# Altium schematic symbol library Switch.SchLib: 21 symbols
Pins are listed as number, name and electrical type; pins without a type are passive.

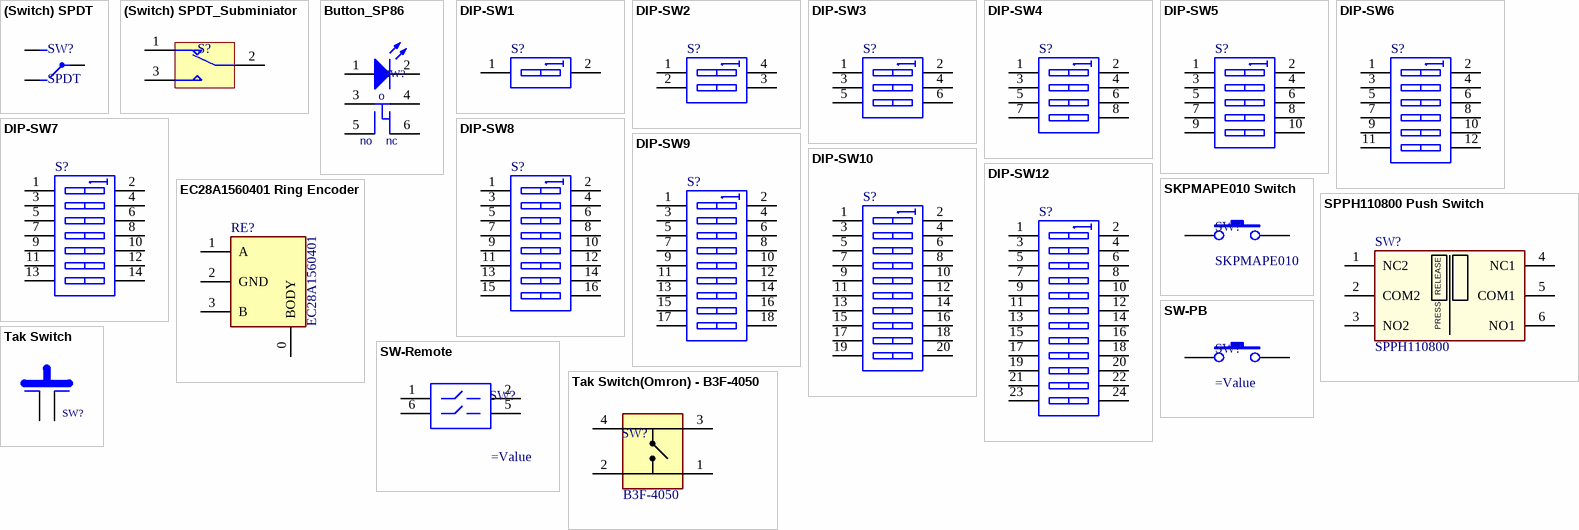
[diagram p0: symbols (Switch) SPDT to Tak Switch(Omron) - B3F-4050]

## (Switch) SPDT
designator SW?, comment SPDT
SPDT Switch
footprint SW SPDT- Horizontal
footprint Switch SPDT - 500x270x1100x185 mil
footprint Switch SPDT - 500x270x1100x185 mil - Right Angle
pins: 1, 2, 3

## (Switch) SPDT_Subminiator
designator S?  (value not drawn)
Subminiator SPDT Switch
footprint SPDT Subminiator (Subminiator SPDT switch)
pins: 1, 2, 3

## Button_SP86
designator SW?
Button
footprint BUTT_SP86
pins: 1, 2, 3, 4, 5, 6
text: o; no; nc

## DIP-SW1
designator S?  (value not drawn)
footprint DSW 1
pins: 1 A1, 2 B1

## DIP-SW2
designator S?  (value not drawn)
footprint DSW 2
pins: 1 A1, 2 A2, 3 B2, 4 B1

## DIP-SW3
designator S?
footprint DSW 3
pins: 1 A1, 2 B1, 3 A2, 4 B2, 5 A3, 6 B3

## DIP-SW4
designator S?  (value not drawn)
footprint DSW 4
footprint DSWS 4-4
pins: 1 A1, 2 B1, 3 A2, 4 B2, 5 A3, 6 B3, 7 A4, 8 B4

## DIP-SW5
designator S?  (value not drawn)
footprint DSW 5
footprint DSWS 4-5
pins: 1 A1, 2 B1, 3 A2, 4 B2, 5 A3, 6 B3, 7 A4, 8 B4, 9 A5, 10 B5

## DIP-SW6
designator S?  (value not drawn)
footprint DSW 6
pins: 1 A1, 2 B1, 3 A2, 4 B2, 5 A3, 6 B3, 7 A4, 8 B4, 9 A5, 10 B5, 11 A6, 12 B6

## DIP-SW7
designator S?  (value not drawn)
footprint DSW 7
pins: 1 A1, 2 B1, 3 A2, 4 B2, 5 A3, 6 B3, 7 A4, 8 B4, 9 A5, 10 B5, 11 A6, 12 B6, 13 A7, 14 B7

## DIP-SW8
designator S?  (value not drawn)
footprint DSW 8
pins: 1 A1, 2 B1, 3 A2, 4 B2, 5 A3, 6 B3, 7 A4, 8 B4, 9 A5, 10 B5, 11 A6, 12 B6, 13 A7, 14 B7, 15 A8, 16 B8

## DIP-SW9
designator S?  (value not drawn)
footprint DSW 9
pins: 1 A1, 2 B1, 3 A2, 4 B2, 5 A3, 6 B3, 7 A4, 8 B4, 9 A5, 10 B5, 11 A6, 12 B6, 13 A7, 14 B7, 15 A8, 16 B8, 17 A9, 18 B9

## DIP-SW10
designator S?  (value not drawn)
footprint DSW 10
pins: 1 A1, 2 B1, 3 A2, 4 B2, 5 A3, 6 B3, 7 A4, 8 B4, 9 A5, 10 B5, 11 A6, 12 B6, 13 A7, 14 B7, 15 A8, 16 B8, 17 A9, 18 B9, 19 A10, 20 B10

## DIP-SW12
designator S?  (value not drawn)
footprint DSW 12
pins: 1 A1, 2 B1, 3 A2, 4 B2, 5 A3, 6 B3, 7 A4, 8 B4, 9 A5, 10 B5, 11 A6, 12 B6, 13 A7, 14 B7, 15 A8, 16 B8, 17 A9, 18 B9, 19 A10, 20 B10, 21 A11, 22 B11, 23 A12, 24 B12

## EC28A1560401 Ring Encoder
designator RE?, comment EC28A1560401
EC28A1560401  Rotary Encoder, Straight, Without Push Switch; Warehouse Number: 11000197; SMD Code: EC28A1560401; Specification: EC28A1560401  Rotary Encoder, Straight, Without Push Switch; Temperature Range: -40℃ to 85℃; PartNumber: EC28A1560401; Package: DIP EC28A1560401
footprint EC28A1560401 (28mm Size Ring Type EC28A/EC28C Series)
pins: 0 BODY, 1 A, 2 GND, 3 B

## SKPMAPE010 Switch
designator SW?, comment SKPMAPE010
SKPMAPE010 TACT Switch 6.0×5.9mm Low Contact Resistance Type (SMD) SKPM Series; Specification: SKPMAPE010 TACT Switch 6.0×5.9mm(SMD); Warehouse Number: 11000192; PartNumber: SKPMAPE010; SMD Code: SKPMAPE010; Temperature Range: -40℃ to 90℃; Package: SMD SKPMAPE010
footprint SKPMAME010 (6.0×5.9mm Low Contact Resistance Type (Surface Mount) SKPM Series)
pins: 1, 2

## SPPH110800 Push Switch
designator SW?, comment SPPH110800
Push Switch N.O./N.C. DPDT Plunger 0.1A 30VDC Latching; Warehouse Number: 11000350; Temperature Ragne: -10℃ to +60℃; SMD Code: SPPH110800; Specification: Push Switch N.O./N.C. DPDT Plunger 0.1A 30VDC Latching; PartNumber: SPPH110800; Package: DIP SPPH110800
footprint SPPH110800 (1.5mm-travel Vertical Type SPPH1 Series)
pins: 1 NC2, 2 COM2, 3 NO2, 4 NC1, 5 COM1, 6 NO1
text: RELEASE; PRESS

## SW-PB
designator SW?
footprint SMD-PB-1
footprint SKPMAME010 (6.0×5.9mm Low Contact Resistance Type (Surface Mount) SKPM Series)
pins: 1, 2

## SW-Remote
designator SW?
ON/OFF Switch
footprint Remote Switch
pins: 1, 2, 5, 6

## Tak Switch
designator SW?
Micro Switch Button
footprint SW_SMD
footprint Sw_Tact 2PIN
footprint Sw_Tact 4Pin
footprint Sw_Tact 4pin-big
pins: 1, 2

## Tak Switch(Omron) - B3F-4050
designator SW?, comment B3F-4050
B3F-4050 lvory Plunger Tactile Switch, SPST-NO 0.05 A@ 24 V dc 3mm
footprint Sw_Tact 4pin-big
pins: 1, 2, 3, 4